# EAGLE library part 16VS (library 1A-meinLib)
CONNECTOR
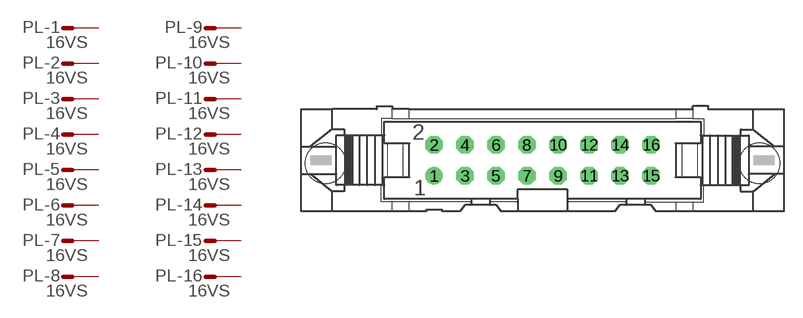
[diagram p127: symbol with the pads of 16V; footprint 16V]

Designator prefix PL; gates -1=M-1 -2=M-1 -3=M-1 -4=M-1 -5=M-1 -6=M-1 -7=M-1 -8=M-1 -9=M-1 -10=M-1 -11=M-1 -12=M-1 -13=M-1 -14=M-1 -15=M-1 -16=M-1

## 16VS  [16V]
1  -1:S  pas
2  -2:S  pas
3  -3:S  pas
4  -4:S  pas
5  -5:S  pas
6  -6:S  pas
7  -7:S  pas
8  -8:S  pas
9  -9:S  pas
10  -10:S  pas
11  -11:S  pas
12  -12:S  pas
13  -13:S  pas
14  -14:S  pas
15  -15:S  pas
16  -16:S  pas

## Footprint 16V (pad centres in mm)
CONNECTOR
drill 0.914 round: 1 -8.89,-1.27
drill 0.914 octagon: 2 -8.89,1.27; 3 -6.35,-1.27; 4 -6.35,1.27; 5 -3.81,-1.27; 6 -3.81,1.27; 7 -1.27,-1.27; 8 -1.27,1.27; 9 1.27,-1.27; 10 1.27,1.27; 11 3.81,-1.27; 12 3.81,1.27; 13 6.35,-1.27; 14 6.35,1.27; 15 8.89,-1.27; 16 8.89,1.27
hole 3.302 at 17.78,-0.254
hole 3.302 at -17.78,-0.254